# EAGLE library part PIC24FJ256GB206 (library pic24FJ256GB206)
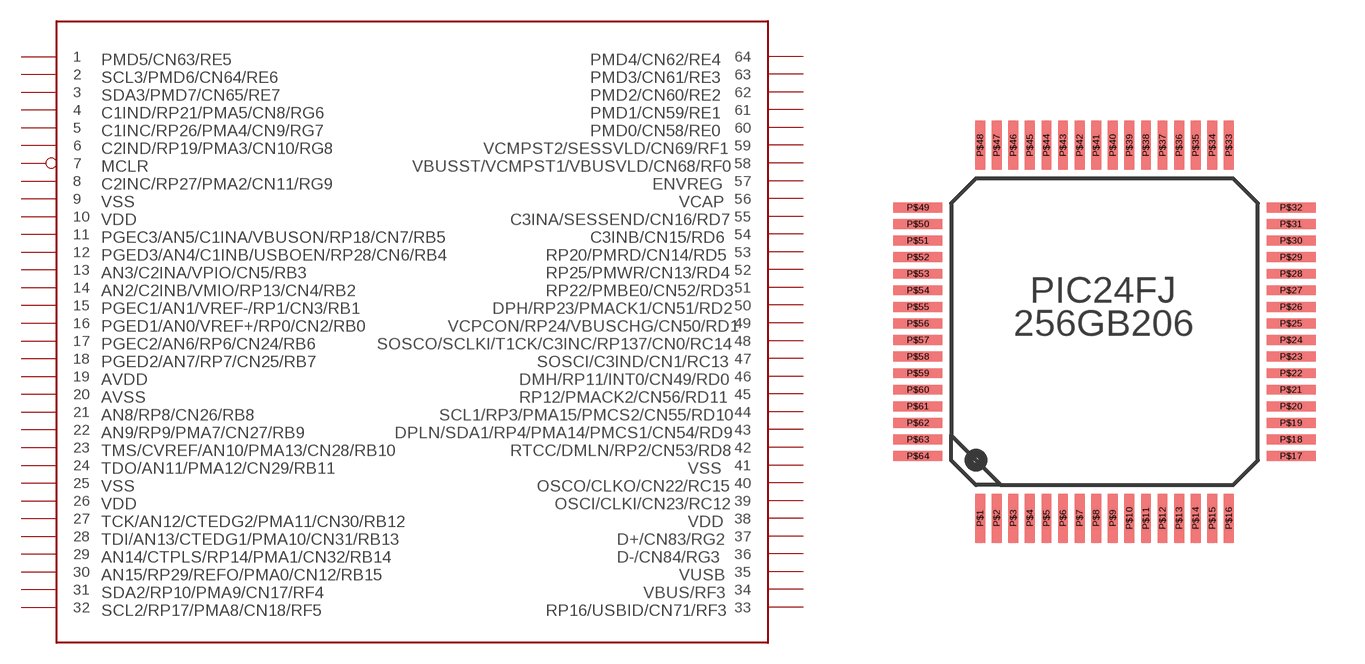
[diagram p0: symbol with the pads of PIC24FJ256GB206; footprint PIC24FJ256GB206]

Designator prefix -

## PIC24FJ256GB206  [PIC24FJ256GB206]
P$1  1
P$2  2
P$3  3
P$4  4
P$5  5
P$6  6
P$7  7
P$8  8
P$9  9
P$10  10
P$11  11
P$12  12
P$13  13
P$14  14
P$15  15
P$16  16
P$17  17
P$18  18
P$19  19
P$20  20
P$21  21
P$22  22
P$23  23
P$24  24
P$25  25
P$26  26
P$27  27
P$28  28
P$29  29
P$30  30
P$31  31
P$32  32
P$33  33
P$34  34
P$35  35
P$36  36
P$37  37
P$38  38
P$39  39
P$40  40
P$41  41
P$42  42
P$43  43
P$44  44
P$45  45
P$46  46
P$47  47
P$48  48
P$49  49
P$50  50
P$51  51
P$52  52
P$53  53
P$54  54
P$55  55
P$56  56
P$57  57
P$58  58
P$59  59
P$60  60
P$61  61
P$62  62
P$63  63
P$64  64

## Footprint PIC24FJ256GB206 (pad centres in mm)
smd 0.3 x 1.5: P$1 -3.81,-5.461; P$2 -3.302,-5.461; P$3 -2.794,-5.461; P$4 -2.286,-5.461; P$5 -1.778,-5.461; P$6 -1.27,-5.461; P$7 -0.762,-5.461; P$8 -0.254,-5.461; P$9 0.254,-5.461; P$10 0.762,-5.461; P$11 1.27,-5.461; P$12 1.778,-5.461; P$13 2.286,-5.461; P$14 2.794,-5.461; P$15 3.302,-5.461; P$16 3.81,-5.461; P$33 3.81,5.969; P$34 3.302,5.969; P$35 2.794,5.969; P$36 2.286,5.969; P$37 1.778,5.969; P$38 1.27,5.969; P$39 0.762,5.969; P$40 0.254,5.969; P$41 -0.254,5.969; P$42 -0.762,5.969; P$43 -1.27,5.969; P$44 -1.778,5.969; P$45 -2.286,5.969; P$46 -2.794,5.969; P$47 -3.302,5.969; P$48 -3.81,5.969
smd 1.5 x 0.3: P$17 5.715,-3.556; P$18 5.715,-3.048; P$19 5.715,-2.54; P$20 5.715,-2.032; P$21 5.715,-1.524; P$22 5.715,-1.016; P$23 5.715,-0.508; P$24 5.715,0; P$25 5.715,0.508; P$26 5.715,1.016; P$27 5.715,1.524; P$28 5.715,2.032; P$29 5.715,2.54; P$30 5.715,3.048; P$31 5.715,3.556; P$32 5.715,4.064; P$49 -5.715,4.064; P$50 -5.715,3.556; P$51 -5.715,3.048; P$52 -5.715,2.54; P$53 -5.715,2.032; P$54 -5.715,1.524; P$55 -5.715,1.016; P$56 -5.715,0.508; P$57 -5.715,0; P$58 -5.715,-0.508; P$59 -5.715,-1.016; P$60 -5.715,-1.524; P$61 -5.715,-2.032; P$62 -5.715,-2.54; P$63 -5.715,-3.048; P$64 -5.715,-3.556